# Altium schematic symbol library Demo.SchLib: 5 symbols
Pins are listed as number, name and electrical type; pins without a type are passive.

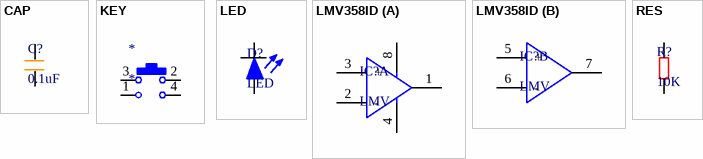
[diagram p0: symbols CAP to RES]

## CAP
designator C?, comment 0.1uF
描述
footprint 0603C (Footprint not found)
pins: 1, 2

## KEY
designator *
描述
footprint KEY (Footprint not found)
pins: 1, 2, 3, 4

## LED
designator D?
描述
footprint 0603D (Footprint not found)
pins: A, K

## LMV358ID
designator IC?, comment LMV
描述
footprint LMV358ID (Footprint not found)
part A pins: 1 OUT1, 2 -, 3 +, 4 GND, 8 VCC
part B pins: 5 +, 6 -, 7 OUT2

## RES
designator R?, comment 10K
描述
footprint RES (Footprint not found)
pins: 0, 1